# Altium footprint library SparkFun-Capacitors.PCBLIB: 37 footprints (part 3 of 3)
Each footprint in its own frame and in the unit in brackets; x right, y up, seen from the top. Pads: shape width x height; smd on the part's side, far side on the other; paste and mask are expansions set on the pad; w line width, h text height; cw(c..) or ccw(c..) is an arc to the next point about the centre after c.
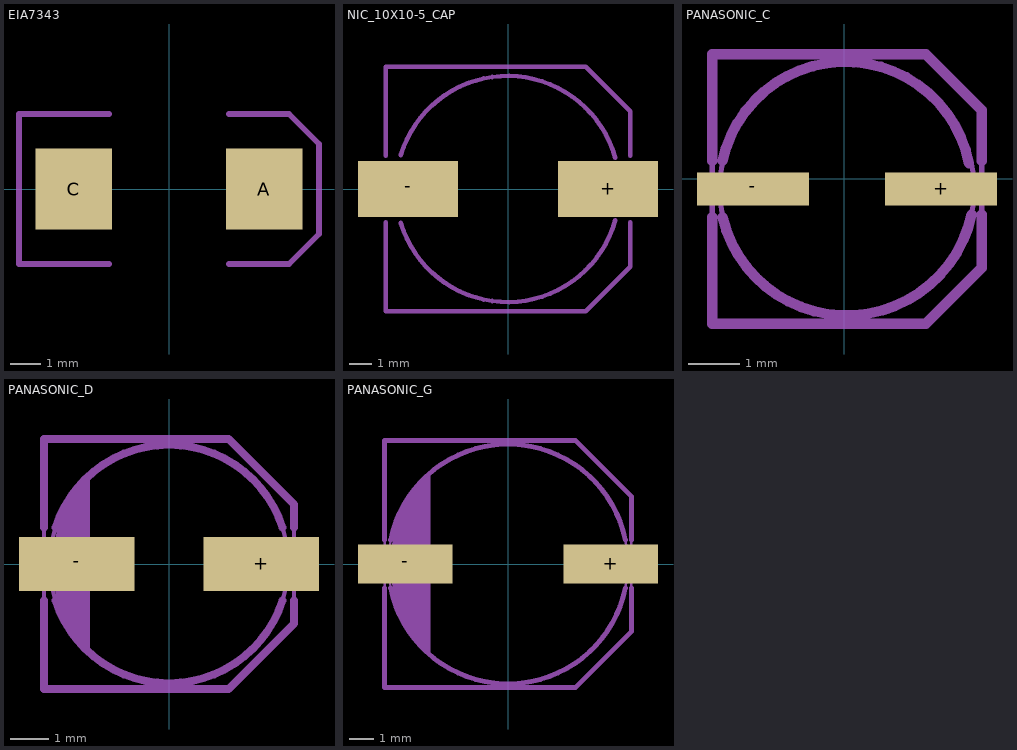
[diagram p2: the footprints below, top view; thin cyan lines are the x and y axes]

## EIA7343 [mil]
pads (2):
  rect 100.39x106.3 smd: A(124.8,0) C(-124.8,0)
tPlace:
  lines w8: -78.74,-98.43 -196.85,-98.43 -196.85,98.43 -78.74,98.43 ; 78.74,-98.43 157.48,-98.43 196.85,-59.06 196.85,59.06 157.48,98.43 78.74,98.43

## NIC_10X10-5_CAP [mil]
pads (2):
  rect 177.17x98.43 smd: +(177.17,0) -(-177.17,0)
tPlace:
  lines w8: -216.54,-59.06 -216.54,-216.54 137.8,-216.54 216.54,-137.8 216.54,-59.06 ; -216.54,59.06 -216.54,216.54 137.8,216.54 216.54,137.8 216.54,59.06 ; -190,-60 ccw(c-0.72,-2.51) 190,-55 ; -190,60 cw(c-0.72,2.51) 190,55

## PANASONIC_C [mm]
pads (2):
  rect 2.2x0.65 smd: +(1.9,-0.2) -(-1.8,-0.2)
tDocu:
  circle w0.102: c0.05,-0.2 r2.5
  lines w0.102: -2.6,-2.85 1.6,-2.85 2.7,-1.75 2.7,1.35 1.6,2.45 -2.6,2.45 -2.6,-2.85
tPlace:
  lines w0.203: -2.6,-0.75 -2.6,-2.85 1.6,-2.85 2.7,-1.75 2.7,-0.7 ; -2.6,0.35 -2.6,2.45 1.6,2.45 2.7,1.35 2.7,0.35 ; -2.4,-0.75 ccw(c0.044,-0.175) 2.5,-0.7 ; -2.4,0.35 cw(c0.02,-0.175) 2.45,0.3

## PANASONIC_D [mm]
pads (2):
  rect 3x1.4 smd: +(2.4,0) -(-2.4,0)
tDocu:
  circle w0.102: c0,0 r3.1
  region: -3.65,-0.35 -3.65,0.35 -3.05,0.35 -3.05,-0.35
  region: 3.05,-0.35 3.05,0.35 3.65,0.35 3.65,-0.35
  region: -2.15,2.15 -2.6,1.6 -2.9,0.9 -3.05,0 -2.9,-0.95 -2.55,-1.65 -2.15,-2.15 -2.15,2.1
  lines w0.102: -2.1,-2.2 -2.1,2.25 ; -3.25,-3.25 1.55,-3.25 3.25,-1.55 3.25,1.55 1.55,3.25 -3.25,3.25 -3.25,-3.25
tPlace:
  lines w0.203: -3.25,-0.95 -3.25,-3.25 1.55,-3.25 3.25,-1.55 3.25,-0.95 ; -3.25,0.95 -3.25,3.25 1.55,3.25 3.25,1.55 3.25,0.95 ; -2.95,-0.95 ccw(c0,0) 2.95,-0.95 ; -2.95,0.95 cw(c0,0) 2.95,0.95

## PANASONIC_G [mil]
pads (2):
  rect 153.54x62.99 smd: +(167.32,0) -(-167.32,0)
tDocu:
  circle w4: c0,0 r194.88
  region: -230.32,-17.72 -230.32,17.72 -192.91,17.72 -192.91,-17.72
  region: 192.91,-17.72 192.91,17.72 230.32,17.72 230.32,-17.72
  region: -129.92,141.73 -159.45,108.27 -183.07,61.02 -190.94,17.72 -190.94,-17.72 -183.07,-61.02 -159.45,-108.27 -129.92,-141.73 -129.92,139.76
  lines w4: -127.95,-143.7 -127.95,145.67 ; -200.79,-200.79 110.24,-200.79 200.79,-110.24 200.79,110.24 110.24,200.79 -200.79,200.79 -200.79,-200.79
tPlace:
  lines w8: -200.79,-39.37 -200.79,-200.79 110.24,-200.79 200.79,-110.24 200.79,-39.37 ; -200.79,39.37 -200.79,200.79 110.24,200.79 200.79,110.24 200.79,39.37 ; -190.94,-39.37 ccw(c0,0) 190.94,-39.37 ; -190.94,39.37 cw(c0,0) 190.94,39.37